# Altium schematic symbol library RP3_V302.SchLib: 44 symbols (part 1 of 2)
Pins are listed as number, name and electrical type; pins without a type are passive.

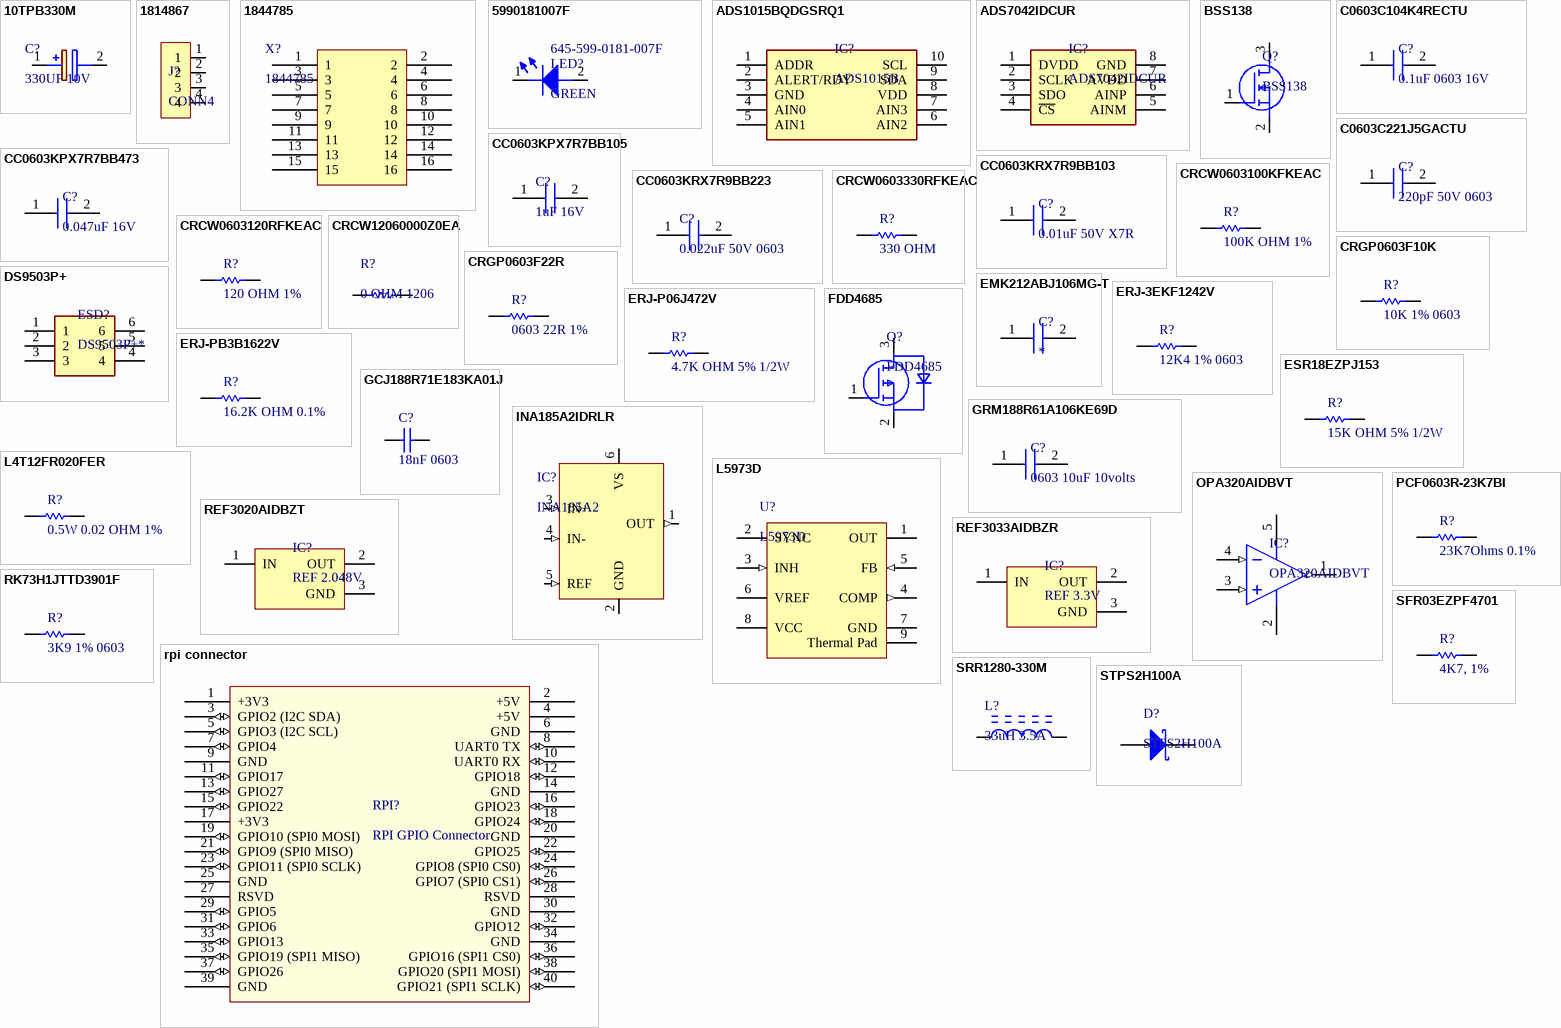
[diagram p0: symbols 10TPB330M to STPS2H100A]

## 10TPB330M
designator C?, comment 330UF 10V
CAP TANT POLY 330UF 10V 2917; Manufacturer_Name: Panasonic; Manufacturer_Part_Number: 10TPB330M; Material: Polymer; Tolerance: 20%; ESR (Equivalent Series Resistance): 35mR; Polarity: Polar; Dissipation Factor: 10%; Ripple Current: 3A; Leakage Current: 330uA; Height: 4mm; Supplier 1: Mouser; Supplier Part Number 1: 667-10TPB330M; Manufacturer: Panasonic; Manufacturer Part Number: 10TPB330M; RoHS: Yes; Category: Tantalum Capacitors; Stock 1: 4103; Pricing 1: 1=2.63000, 10=2.13000, 100=1.63000, 250=1.51000, 500=1.24000, 1000=1.09000, 2000=0.90800, 4000=0.87400, 10000=0.87100 (USD); Mount: Surface Mount; Case/Package: 2917; Number of Pins: 4; Case Code (Metric): 7343; Case Code (Imperial): 2917; Min Operating Temperature: -55°C; Max Operating Temperature: 105°C; Capacitance: 330uF; Packaging: Tape and Reel; Voltage: 10V; Voltage Rating: 10V; Package Quantity: 2000; Voltage Rating (DC): 10V; Termination: SMD/SMT; Features: General Purpose; Length: 7.3mm; Depth: 4.3mm; Width: 4.3mm; Height - Seated (Max): 0.157inch; Radiation Hardening: No; REACH SVHC: No SVHC; Lead Free: Lead Free; ComponentLink1URL: https://datasheet.ciiva.com/24414/tpb-tpc-series-datasheet-24414053.pdf?src-supplier=Onlinecomponents.com; ComponentLink1Description: https://datasheet.ciiva.com/24414/tpb-tpc-series-datasheet-24414053.pdf?src-supplier=Onlinecomponents.com; ComponentLink2URL: https://datasheet.ciiva.com/48674/aaa8000ce6-48674981.pdf?src-supplier=Avnet; ComponentLink2Description: https://datasheet.ciiva.com/48674/aaa8000ce6-48674981.pdf?src-supplier=Avnet; ComponentLink3URL: https://datasheet.ciiva.com/22745/1734361-22745177.pdf?src-supplier=Element14; ComponentLink3Description: https://datasheet.ciiva.com/22745/1734361-22745177.pdf?src-supplier=Element14; ComponentLink4URL: https://datasheet.ciiva.com/48542/tpb-series-eng-tds-48542379.pdf?src-supplier=Distrelec; ComponentLink4Description: https://datasheet.ciiva.com/48542/tpb-series-eng-tds-48542379.pdf?src-supplier=Distrelec; ComponentLink5URL: https://datasheet.ciiva.com/41428/001179753-da-01-en-tantal-kond-10vdc-330uf-35mr-734338-41428090.pdf?src-supplier=Conrad; ComponentLink5Description: https://datasheet.ciiva.com/41428/001179753-da-01-en-tantal-kond-10vdc-330uf-35mr-734338-41428090.pdf?src-supplier=Conrad
footprint CAPPM7343X400N
pins: 1 +, 2 -

## 1814867
designator J?, comment CONN4
Conn; TermBlk; PCB; Header; SnglLvl; 90DegAngle; THR; 4Pole; 2.5mmPitch; White; 6A; 250V; Manufacturer: Phoenix Contact; Manufacturer Part Number: 1814867; Number of Positions: 4; Gender: Male; Connector Type: Plug; Pitch: 2.5mm; Approvals: UL; Supplier 1: Mouser; RoHS: Yes; Category: Connectors; Stock 1: 808; Pricing 1: 1=0.86000, 10=0.79200, 25=0.77400, 50=0.76000, 100=0.72600, 250=0.70700, 500=0.66000, 1000=0.60800, 2500=0.56100 (USD); Mount: Through Hole; Color: White; Contact Plating: Tin; Material: Polyamide; Housing Color: White; Housing Material: Polyamide; Contact Material: Tin; Package Quantity: 500; Packaging: Tape and Reel; Current Rating: 6A; Voltage Rating: 250V; Termination: Solder; Fastening Type: Detent; Number of Contacts: 4; Number of Rows: 1; Number of Poles: 4; Orientation: Straight; Length: 7.5mm; Height: 7.5mm; Depth: 5mm; Width: 11.7mm; ComponentLink1URL: https://datasheet.ciiva.com/29681/1814867-29681920.pdf?src-supplier=Digi-Key; ComponentLink1Description: https://datasheet.ciiva.com/29681/1814867-29681920.pdf?src-supplier=Digi-Key; ComponentLink2URL: https://datasheet.ciiva.com/29207/556465-da-01-en-grundgehaeuse-ptsm-0-5-4-hh-2-5-thr-29207364.pdf?src-supplier=Conrad; ComponentLink2Description: https://datasheet.ciiva.com/29207/556465-da-01-en-grundgehaeuse-ptsm-0-5-4-hh-2-5-thr-29207364.pdf?src-supplier=Conrad; Supplier Part Number 1: 651-1814867
footprint PTSM_0_5/4-HH-2,5-THR
pins: 1, 2, 3, 4

## 1844785
designator X?
TERM BLOCK HDR 16POS 2.54MM; Manufacturer: Phoenix Contact; Supplier 1: Mouser; Manufacturer Part Number: 1844785; RoHS: No; Category: Terminal Blocks; Stock 1: 101; Pricing 1: 1=7.30000, 10=7.00000, 50=6.69000, 100=6.51000, 250=6.08000, 500=5.60000 (USD); Number of Pins: 16; ComponentLink1URL: https://media.digikey.com/pdf/Data%20Sheets/Phoenix%20Contact%20PDFs/1844785.pdf?src-supplier=Digi-Key; ComponentLink1Description: https://media.digikey.com/pdf/Data%20Sheets/Phoenix%20Contact%20PDFs/1844785.pdf?src-supplier=Digi-Key; Supplier Part Number 1: 651-1844785
footprint 1844785
pins: 1, 2, 3, 4, 5, 6, 7, 8, 9, 10, 11, 12, 13, 14, 15, 16
1 alternate drawing of the same symbol

## 5990181007F
designator LED?, comment GREEN  Supplier Part Number 1: 645-599-0181-007F
LED GREEN 0805 SMD; Manufacturer: Dialight; Manufacturer Part Number: 5990181007F; Supplier 1: Mouser; RoHS: No; Stock 1: 22824; Pricing 1: 1=0.68000, 10=0.39600, 100=0.22800, 1000=0.17900, 2500=0.14900, 8000=0.14900 (USD); ComponentLink1URL: http://www.dialightsignalsandcomponents.com/Assets/Brochures_And_Catalogs/Indication/CBI_SMD_new/Dialight_CBI_data_599-0805_Apr2018.pdf?src-supplier=Digi-Key; ComponentLink1Description: http://www.dialightsignalsandcomponents.com/Assets/Brochures_And_Catalogs/Indication/CBI_SMD_new/Dialight_CBI_data_599-0805_Apr2018.pdf?src-supplier=Digi-Key
footprint LEDC2012X70N
pins: 1 K, 2 A

## ADS1015BQDGSRQ1
designator IC?, comment ADS1015B
ADS1015B Automotive 12-Bit ADC; Manufacturer: Texas Instruments; Manufacturer Part Number: ADS1015BQDGSRQ1; Interface: I2C; Number of Inputs: 4; Supplier 1: Mouser; RoHS: No; Category: Analog to Digital Converters (ADCs); Stock 1: 3359; Pricing 1: 1=3.25000, 10=2.92000, 100=2.27000, 250=2.27000, 500=1.96000, 1000=1.63000, 2500=1.52000, 5000=1.48000 (USD); Min Operating Temperature: -40°C; Max Operating Temperature: 125°C; ComponentLink1URL: http://www.ti.com/lit/ds/symlink/ads1013-q1.pdf?src-supplier=Digi-Key; ComponentLink1Description: http://www.ti.com/lit/ds/symlink/ads1013-q1.pdf?src-supplier=Digi-Key; ComponentLink2URL: http://www.ti.com/general/docs/lit/getliterature.tsp?genericPartNumber=ADS1015-Q1&fileType=pdf&src-supplier=Farnell; ComponentLink2Description: http://www.ti.com/general/docs/lit/getliterature.tsp?genericPartNumber=ADS1015-Q1&fileType=pdf&src-supplier=Farnell; Supplier Part Number 1: 595-ADS1015BQDGSRQ1
footprint SOP50P490X110-10N
pins: 1 ADDR, 2 ALERT/RDY, 3 GND, 4 AIN0, 5 AIN1, 6 AIN2, 7 AIN3, 8 VDD, 9 SDA, 10 SCL

## ADS7042IDCUR
designator IC?
IC ADC 12BIT 1MSPS US8; Manufacturer: Texas Instruments; Number of Bits: 12; Sampling Rate: 1S/s; Number of Inputs: 1; Interface: SPI; Resolution: 12b; Polarity: Unipolar; Supply Type: Analog,Digital; Power Dissipation: 234uW; Operating Supply Voltage: 3V; Signal to Noise Ratio (SNR): 70dB; Max Power Dissipation: 690uW; Max Supply Voltage: 3.6V; Integral Nonlinearity (INL): 2LSB; Supplier 1: Mouser; Manufacturer Part Number: ADS7042IDCUR; RoHS: Yes; Category: Analog to Digital Converters (ADCs); Stock 1: 3041; Pricing 1: 1=2.64000, 10=2.37000, 100=1.79000, 500=1.52000, 1000=1.21000, 3000=1.11000 (USD); Mount: Surface Mount; Number of Pins: 8; Contact Plating: Gold; Min Operating Temperature: -40°C; Max Operating Temperature: 125°C; Packaging: Tape and Reel; Number of A/D Converters: 1; Number of Analog Inputs: 1; Lead Free: Lead Free; ComponentLink1URL: http://www.ti.com/lit/ds/symlink/ads7042.pdf?src-supplier=Digi-Key; ComponentLink1Description: http://www.ti.com/lit/ds/symlink/ads7042.pdf?src-supplier=Digi-Key; ComponentLink2URL: http://www.ti.com/general/docs/lit/getliterature.tsp?genericPartNumber=ADS7042&&fileType=pdf&src-supplier=Avnet; ComponentLink2Description: http://www.ti.com/general/docs/lit/getliterature.tsp?genericPartNumber=ADS7042&&fileType=pdf&src-supplier=Avnet; ComponentLink3URL: http://www.ti.com/lit/gpn/ads7042?src-supplier=Mouser; ComponentLink3Description: http://www.ti.com/lit/gpn/ads7042?src-supplier=Mouser; Supplier Part Number 1: 595-ADS7042IDCUR
footprint SOP50P310X90-8N
pins: 1 DVDD, 2 SCLK, 3 SDO, 4 ~{CS}, 5 AINM, 6 AINP, 7 AVDD, 8 GND

## BSS138
designator Q?
MOSFET N-CH 50V 220MA SOT-23; Manufacturer: ON Semiconductor / Fairchild; Element Configuration: Single; Rds On Max: 3.5R; Input Capacitance: 27pF; Max Power Dissipation: 360mW; Rise Time: 9ns; Turn-Off Delay Time: 20ns; Gate to Source Voltage (Vgs): 20V; Turn-On Delay Time: 2.5ns; Number of Elements: 1; Threshold Voltage: 1.3V; On-State Resistance: 6R; Supplier 1: Mouser; Manufacturer Part Number: BSS138; RoHS: Yes; Category: MOSFETs; Stock 1: 736044; Pricing 1: 1=0.26000, 10=0.17800, 100=0.07400, 1000=0.05000, 3000=0.03900, 9000=0.03300, 24000=0.03100, 45000=0.02900 (USD); Mount: Surface Mount; Case/Package: SOT-23; Number of Pins: 3; Weight: 0.03g; Contact Plating: Tin,Matte; Min Operating Temperature: -55°C; Max Operating Temperature: 150°C; Packaging: Tape and Reel; Continuous Drain Current (ID): 220mA; Drain to Source Voltage (Vdss): 50V; Drain to Source Breakdown Voltage: 50V; Fall Time: 9ns; Drain to Source Resistance: 3.5R; Package Quantity: 1; Power Dissipation: 360mW; Voltage Rating (DC): 50V; Current Rating: 220mA; Nominal Vgs: 1.3V; Dual Supply Voltage: 50V; Termination: SMD/SMT; Length: 2.92mm; Height: 0.93mm; Width: 1.3mm; Radiation Hardening: No; Lead Free: Lead Free; REACH SVHC: No SVHC; ComponentLink1URL: https://datasheet.ciiva.com/931/bss138-931776.pdf?src-supplier=Digi-Key; ComponentLink1Description: https://datasheet.ciiva.com/931/bss138-931776.pdf?src-supplier=Digi-Key; ComponentLink2URL: https://datasheet.ciiva.com/1190/193736-1190130.pdf?src-supplier=Element14; ComponentLink2Description: https://datasheet.ciiva.com/1190/193736-1190130.pdf?src-supplier=Element14; ComponentLink3URL: https://datasheet.ciiva.com/27050/784896-27050043.pdf?src-supplier=Jameco; ComponentLink3Description: https://datasheet.ciiva.com/27050/784896-27050043.pdf?src-supplier=Jameco; ComponentLink4URL: https://datasheet.ciiva.com/1190/193736-1190131.pdf?src-supplier=Element14; ComponentLink4Description: https://datasheet.ciiva.com/1190/193736-1190131.pdf?src-supplier=Element14; ComponentLink5URL: https://datasheet.ciiva.com/1254/193736-1254983.pdf?src-supplier=Newark; ComponentLink5Description: https://datasheet.ciiva.com/1254/193736-1254983.pdf?src-supplier=Newark; ComponentLink6URL: https://datasheet.ciiva.com/16834/bss138-16834843.pdf?src-supplier=Future+Electronics; ComponentLink6Description: https://datasheet.ciiva.com/16834/bss138-16834843.pdf?src-supplier=Future+Electronics; ComponentLink7URL: https://datasheet.ciiva.com/26229/bss138-26229007.pdf?src-supplier=Avnet+Europe; ComponentLink7Description: https://datasheet.ciiva.com/26229/bss138-26229007.pdf?src-supplier=Avnet+Europe; ComponentLink8URL: https://datasheet.ciiva.com/3304/bss138-3304424.pdf?src-supplier=Avnet; ComponentLink8Description: https://datasheet.ciiva.com/3304/bss138-3304424.pdf?src-supplier=Avnet; ComponentLink9URL: https://datasheet.ciiva.com/22655/193736-22655240.pdf?src-supplier=Element14; ComponentLink9Description: https://datasheet.ciiva.com/22655/193736-22655240.pdf?src-supplier=Element14; Supplier Part Number 1: 512-BSS138
footprint SOT-23-3
pins: 1 G, 2 S, 3 D

## C0603C104K4RECTU
designator C?, comment 0.1uF 0603 16V
Cap Ceramic MLCC  16V 0.1uF 0603 X7R 10%; Manufacturer: KEMET; Manufacturer Part Number: C0603C104K4RECTU; RoHS: No; Stock 1: 41640; Pricing 1: 1=0.11000, 10=0.04800, 100=0.03400, 500=0.02800, 1000=0.02300, 4000=0.01800 (USD); Supplier 1: Mouser; Supplier Part Number 1: 80-C0603C104K4RECTU
footprint CAPC1608X87N
pins: 1, 2

## C0603C221J5GACTU
designator C?, comment 220pF 50V 0603
Cap Ceramic 220pF 50V, C0G, 5%, 0603; Manufacturer: KEMET; Manufacturer Part Number: C0603C221J5GACTU; Dissipation Factor: 0.1%; Temperature Coefficient: 30ppm/°C; Supplier 1: Digi-Key; RoHS: Yes; Category: Ceramic Capacitors; Stock 1: 149248; Pricing 1: 1=0.10000, 10=0.06100, 100=0.02730, 500=0.01948, 1000=0.01531 (USD); Mount: Surface Mount; Case/Package: 0603; Number of Pins: 2; Contact Plating: Tin,Matte; Dielectric Material: Ceramic; Contact Material: Tin; Case Code (Imperial): 0603; Case Code (Metric): 1608; Min Operating Temperature: -55°C; Max Operating Temperature: 125°C; Packaging: Tape and Reel; Tolerance: 5%; Capacitance: 220pF; Dielectric: C0G; Voltage Rating (DC): 50V; Voltage: 50V; Package Quantity: 1; Voltage Rating: 50V; Termination: SMD/SMT; Length: 1.6mm; Height: 0.8mm; Depth: 0.8mm; Width: 0.8mm; Thickness: 0.034inch; Lead Pitch: 0.7mm; Radiation Hardening: No; Lead Free: Lead Free; REACH SVHC: No SVHC; ComponentLink1URL: https://datasheet.ciiva.com/18192/getdatasheetpartid-93445-18192871.pdf?src-supplier=Verical; ComponentLink1Description: https://datasheet.ciiva.com/18192/getdatasheetpartid-93445-18192871.pdf?src-supplier=Verical; Supplier Part Number 1: 399-1066-1-ND
footprint CAPC1608X87N
pins: 1, 2

## CC0603KPX7R7BB105
designator C?, comment 1uF 16V
Cap Ceramic 1uF 16V X7R 10% SMD 0603 125C Paper T/R; Manufacturer: Yageo; Manufacturer Part Number: CC0603KPX7R7BB105; Supplier 1: Mouser; RoHS: Yes; Category: Ceramic Capacitors; Stock 1: 23771; Pricing 1: 1=0.20000, 10=0.10100, 100=0.05100, 1000=0.04300, 2500=0.03200, 10000=0.03100, 15000=0.02700, 90000=0.02300 (USD); Mount: Surface Mount; Case/Package: 0603; Weight: 7.1E-05oz; Case Code (Imperial): 0603; Case Code (Metric): 1608; Min Operating Temperature: -55°C; Max Operating Temperature: 125°C; Capacitance: 1uF; Voltage Rating (DC): 16V; Tolerance: 10%; Packaging: Tape and Reel; Dielectric: X7R; Termination: SMD/SMT; Composition: Ceramic; Length: 1.6mm; Height: 0.8mm; Depth: 0.8mm; Radiation Hardening: No; Lead Free: Lead Free; Halogen Free: Halogen Free; ComponentLink1URL: https://datasheet.ciiva.com/11586/upy-gphc-x7r-6-3v-to-50v-8-11586296.pdf?src-supplier=Avnet; ComponentLink1Description: https://datasheet.ciiva.com/11586/upy-gphc-x7r-6-3v-to-50v-8-11586296.pdf?src-supplier=Avnet; Supplier Part Number 1: 603-CC603KPX7R7BB105
footprint CAPC1608X87N
pins: 1, 2

## CC0603KPX7R7BB473
designator C?, comment 0.047uF 16V
Cap Ceramic 0.047uF 16V X7R 10% SMD 0603 125C Paper T/R; Manufacturer: Yageo; Manufacturer Part Number: CC0603KPX7R7BB473; Capacitance: 47nF; Supplier 1: Mouser; RoHS: Yes; Category: Capacitors; Stock 1: 25389; Pricing 1: 1=0.10000, 10=0.04500, 100=0.02100, 1000=0.01600, 2500=0.01200, 10000=0.01100, 45000=0.00900, 90000=0.00800 (USD); Case/Package: Ceramic; Min Operating Temperature: -55°C; Max Operating Temperature: 125°C; Packaging: Tape and Reel; Tolerance: 10%; Voltage Rating (DC): 16V; Dielectric: X7R; Composition: Ceramic; Voltage: 16V; Length: 1.6mm; Depth: 0.8mm; Radiation Hardening: No; Lead Free: Lead Free; Halogen Free: Halogen Free; ComponentLink1URL: https://www.verical.com/server-webapp/html/getDatasheet?partID=403557&src-supplier=Verical; ComponentLink1Description: https://www.verical.com/server-webapp/html/getDatasheet?partID=403557&src-supplier=Verical; ComponentLink2URL: http://www.mouser.com/ds/2/447/UPY-GPHC_X7R_6.3V-to-50V_10-595240.pdf?src-supplier=Mouser; ComponentLink2Description: http://www.mouser.com/ds/2/447/UPY-GPHC_X7R_6.3V-to-50V_10-595240.pdf?src-supplier=Mouser; ComponentLink3URL: http://components.arrow.com/part/dataview/0323_00776261?src-supplier=Arrow+Europe; ComponentLink3Description: http://components.arrow.com/part/dataview/0323_00776261?src-supplier=Arrow+Europe; Supplier Part Number 1: 603-CC603KPX7R7BB473
footprint CAPC1608X87N
pins: 1, 2

## CC0603KRX7R9BB103
designator C?, comment 0.01uF 50V X7R
Cap Ceramic 0.01uF 50V X7R 10% SMD 0603 125C Automotive T/R; Manufacturer: Yageo; Manufacturer Part Number: CC0603KRX7R9BB103; Capacitance: 10nF; Insulation Resistance: 100GR; RoHS: Yes; Category: Ceramic Capacitors; Stock 1: 3087962; Pricing 1: 1=0.10000, 10=0.03600, 100=0.01200, 1000=0.00900, 4000=0.00700, 8000=0.00600 (USD); Mount: Surface Mount; Case/Package: 0603; Number of Pins: 2; Case Code (Metric): 1608; Case Code (Imperial): 0603; Material: Ceramic; Min Operating Temperature: -55°C; Max Operating Temperature: 125°C; Tolerance: 10%; Packaging: Tape and Reel; Voltage Rating: 50V; Voltage Rating (DC): 50V; Package Quantity: 1; Dielectric: X7R; Termination: SMD/SMT; Composition: Ceramic; Voltage: 50V; Length: 1.6mm; Height: 0.8mm; Width: 0.031inch; Thickness: 0.035inch; Depth: 0.8mm; Radiation Hardening: No; REACH SVHC: No SVHC; Lead Free: Lead Free; Halogen Free: Halogen Free; ComponentLink1URL: https://datasheet.ciiva.com/11788/0900766b8079c870-11788374.pdf?src-supplier=RSComponents; ComponentLink1Description: https://datasheet.ciiva.com/11788/0900766b8079c870-11788374.pdf?src-supplier=RSComponents; ComponentLink2URL: https://datasheet.ciiva.com/26862/getdatasheetpartid-403582-26862846.pdf?src-supplier=Verical; ComponentLink2Description: https://datasheet.ciiva.com/26862/getdatasheetpartid-403582-26862846.pdf?src-supplier=Verical; ComponentLink3URL: https://datasheet.ciiva.com/8033/1734573-8033861.pdf?src-supplier=Element14; ComponentLink3Description: https://datasheet.ciiva.com/8033/1734573-8033861.pdf?src-supplier=Element14; ComponentLink4URL: https://datasheet.ciiva.com/176/mlccorderingcode-176550.pdf?src-supplier=Digi-Key; ComponentLink4Description: https://datasheet.ciiva.com/176/mlccorderingcode-176550.pdf?src-supplier=Digi-Key; ComponentLink5URL: https://datasheet.ciiva.com/176/mlccorderingcode-176551.pdf?src-supplier=Digi-Key; ComponentLink5Description: https://datasheet.ciiva.com/176/mlccorderingcode-176551.pdf?src-supplier=Digi-Key; ComponentLink6URL: https://datasheet.ciiva.com/13389/upy-gphc-x7r-6-3v-to-50v-8-13389991.pdf?src-supplier=Mouser; ComponentLink6Description: https://datasheet.ciiva.com/13389/upy-gphc-x7r-6-3v-to-50v-8-13389991.pdf?src-supplier=Mouser; ComponentLink7URL: https://datasheet.ciiva.com/176/mlccorderingcode-176552.pdf?src-supplier=Digi-Key; ComponentLink7Description: https://datasheet.ciiva.com/176/mlccorderingcode-176552.pdf?src-supplier=Digi-Key; ComponentLink8URL: https://datasheet.ciiva.com/8033/1734573-8033816.pdf?src-supplier=Element14; ComponentLink8Description: https://datasheet.ciiva.com/8033/1734573-8033816.pdf?src-supplier=Element14; ComponentLink9URL: https://datasheet.ciiva.com/8033/70765-8033817.pdf?src-supplier=Element14; ComponentLink9Description: https://datasheet.ciiva.com/8033/70765-8033817.pdf?src-supplier=Element14; ComponentLink10URL: https://datasheet.ciiva.com/16625/upy-gphc-x7r-6-3v-to-50v-8-16625529.pdf?src-supplier=Avnet+Europe; ComponentLink10Description: https://datasheet.ciiva.com/16625/upy-gphc-x7r-6-3v-to-50v-8-16625529.pdf?src-supplier=Avnet+Europe; ComponentLink11URL: https://datasheet.ciiva.com/28450/1489800-28450619.pdf?src-supplier=Element14; ComponentLink11Description: https://datasheet.ciiva.com/28450/1489800-28450619.pdf?src-supplier=Element14; Supplier 1: Mouser; Supplier Part Number 1: 603-CC603KRX7R9BB103
footprint CAPC1608X87N
pins: 1, 2

## CC0603KRX7R9BB223
designator C?, comment 0.022uF 50V 0603
Cap Ceramic 0.022uF 50V X7R 0603; Manufacturer: Yageo; Manufacturer Part Number: CC0603KRX7R9BB223; Capacitance: 22nF; Tolerance: 10%; Insulation Resistance: 100GR; Supplier 1: Digi-Key; RoHS: Yes; Category: Ceramic Capacitors; Stock 1: 203085; Pricing 1: 1=0.10000, 10=0.06100, 100=0.02720, 500=0.01946, 1000=0.01529 (USD); Mount: Surface Mount; Case/Package: 0603; Number of Pins: 2; Case Code (Metric): 1608; Case Code (Imperial): 0603; Dielectric Material: Ceramic; Min Operating Temperature: -55°C; Max Operating Temperature: 125°C; Dielectric: X7R; Voltage: 50V; Package Quantity: 1; Voltage Rating: 50V; Packaging: Tape and Reel; Voltage Rating (DC): 50V; Termination: SMD/SMT; Composition: Ceramic; Length: 1.6mm; Height: 0.8mm; Depth: 0.8mm; Width: 0.031inch; Thickness: 0.035inch; Radiation Hardening: No; REACH SVHC: No SVHC; Lead Free: Lead Free; Halogen Free: Halogen Free; ComponentLink1URL: https://datasheet.ciiva.com/11464/upy-gphc-x7r-6-3v-to-50v-8-11464741.pdf?src-supplier=Avnet; ComponentLink1Description: https://datasheet.ciiva.com/11464/upy-gphc-x7r-6-3v-to-50v-8-11464741.pdf?src-supplier=Avnet; ComponentLink2URL: https://datasheet.ciiva.com/16625/upy-gphc-x7r-6-3v-to-50v-8-16625532.pdf?src-supplier=Avnet+Europe; ComponentLink2Description: https://datasheet.ciiva.com/16625/upy-gphc-x7r-6-3v-to-50v-8-16625532.pdf?src-supplier=Avnet+Europe; ComponentLink3URL: https://datasheet.ciiva.com/8033/70765-8033869.pdf?src-supplier=Element14; ComponentLink3Description: https://datasheet.ciiva.com/8033/70765-8033869.pdf?src-supplier=Element14; ComponentLink4URL: https://datasheet.ciiva.com/156/mlccorderingcode-156177.pdf?src-supplier=Digi-Key; ComponentLink4Description: https://datasheet.ciiva.com/156/mlccorderingcode-156177.pdf?src-supplier=Digi-Key; ComponentLink5URL: https://datasheet.ciiva.com/156/mlccorderingcode-156178.pdf?src-supplier=Digi-Key; ComponentLink5Description: https://datasheet.ciiva.com/156/mlccorderingcode-156178.pdf?src-supplier=Digi-Key; ComponentLink6URL: https://datasheet.ciiva.com/156/mlccorderingcode-156179.pdf?src-supplier=Digi-Key; ComponentLink6Description: https://datasheet.ciiva.com/156/mlccorderingcode-156179.pdf?src-supplier=Digi-Key; ComponentLink7URL: https://datasheet.ciiva.com/8033/1489800-8033865.pdf?src-supplier=Element14; ComponentLink7Description: https://datasheet.ciiva.com/8033/1489800-8033865.pdf?src-supplier=Element14; ComponentLink8URL: https://datasheet.ciiva.com/8033/1489800-8033867.pdf?src-supplier=Element14; ComponentLink8Description: https://datasheet.ciiva.com/8033/1489800-8033867.pdf?src-supplier=Element14; ComponentLink9URL: https://datasheet.ciiva.com/28450/1489800-28450639.pdf?src-supplier=Element14; ComponentLink9Description: https://datasheet.ciiva.com/28450/1489800-28450639.pdf?src-supplier=Element14; Supplier Part Number 1: 311-1370-1-ND
footprint CAPC1608X87N
pins: 1, 2

## CRCW0603100KFKEAC
designator R?, comment 100K OHM 1%
RES SMD 100K OHM 1% 1/10W 0603; Manufacturer: Vishay; Manufacturer Part Number: CRCW0603100KFKEAC; Power Rating: 100mW; Resistance: 100kR; Temperature Coefficient: 100ppm/°C; RoHS: Yes; Category: Resistors; Stock 1: 901833; Pricing 1: 1=0.10000, 10=0.03300, 100=0.01300, 500=0.00800, 1000=0.00500, 5000=0.00500, 10000=0.00400 (USD); Mount: Surface Mount; Case/Package: Molded; Contact Plating: Tin; Min Operating Temperature: -55°C; Max Operating Temperature: 155°C; Tolerance: 1%; Composition: Thick Film; Termination: Wraparound; Length: 1.55mm; Lead Free: Lead Free; ComponentLink1URL: http://www.vishay.com/docs/28773/crcwce3.pdf?src-supplier=Digi-Key; ComponentLink1Description: http://www.vishay.com/docs/28773/crcwce3.pdf?src-supplier=Digi-Key; ComponentLink2URL: http://www.vishay.com/docs/20035/dcrcwe3.pdf?src-supplier=Avnet+Asia; ComponentLink2Description: http://www.vishay.com/docs/20035/dcrcwe3.pdf?src-supplier=Avnet+Asia; Supplier 1: Mouser; Supplier Part Number 1: 71-CRCW0603100KFKEAC
footprint RESC1608X55X30NL10T20_B (Chip Resistor, 2-Leads, Body 1.7x0.95mm, IPC Medium Density)
pins: 1, 2

## CRCW0603120RFKEAC
designator R?, comment 120 OHM 1%
RES SMD 120 OHM 1% 1/10W 0603; Manufacturer: Vishay; Manufacturer Part Number: CRCW0603120RFKEAC; Supplier 1: Mouser; RoHS: No; Stock 1: 69635; Pricing 1: 1=0.10000, 10=0.03100, 100=0.01300, 500=0.00800, 1000=0.00500, 5000=0.00400, 50000=0.00300 (USD); ComponentLink1URL: http://www.vishay.com/docs/28773/crcwce3.pdf?src-supplier=Digi-Key; ComponentLink1Description: http://www.vishay.com/docs/28773/crcwce3.pdf?src-supplier=Digi-Key; Supplier Part Number 1: 71-CRCW0603120RFKEAC
footprint RESC1608X55X30NL10T20_B (Chip Resistor, 2-Leads, Body 1.7x0.95mm, IPC Medium Density)
pins: 1, 2

## CRCW0603330RFKEAC
designator R?, comment 330 OHM
RES SMD 330 OHM 1% 1/10W 0603; Manufacturer: Vishay Semiconductors; Manufacturer Part Number: CRCW0603330RFKEAC; Resistance: 330R; Power Rating: 100mW; Temperature Coefficient: 100ppm/°C; Supplier 1: Mouser; RoHS: Yes; Category: Resistors; Stock 1: 108002; Pricing 1: 1=0.10000, 10=0.03000, 100=0.01200, 500=0.00700, 1000=0.00400, 5000=0.00400, 10000=0.00300 (USD); Mount: Surface Mount; Case/Package: Molded; Contact Plating: Tin; Min Operating Temperature: -55°C; Max Operating Temperature: 155°C; Composition: Thick Film; Termination: Wraparound; Tolerance: 1%; Length: 1.55mm; Lead Free: Lead Free; ComponentLink1URL: http://www.vishay.com/docs/28773/crcwce3.pdf?src-supplier=Digi-Key; ComponentLink1Description: http://www.vishay.com/docs/28773/crcwce3.pdf?src-supplier=Digi-Key; ComponentLink2URL: http://www.vishay.com/docs/20035/dcrcwe3.pdf?src-supplier=Avnet+Asia; ComponentLink2Description: http://www.vishay.com/docs/20035/dcrcwe3.pdf?src-supplier=Avnet+Asia; Supplier Part Number 1: 71-CRCW0603330RFKEAC
footprint RESC1608X55X30NL10T20_B (Chip Resistor, 2-Leads, Body 1.7x0.95mm, IPC Medium Density)
pins: 1, 2

## CRCW12060000Z0EA
designator R?, comment 0 OHM 1206
RES SMD 0 OHM JUMPER 1/4W 1206; Manufacturer: Vishay; Manufacturer Part Number: CRCW12060000Z0EA; Resistance: 0mR; Power Rating: 250mW; Voltage Rating: 200V; Temperature Coefficient: 100ppm/°C; Tolerance: 1%; Supplier 1: Mouser; Supplier Part Number 1: 71-CRCW1206-0-E3; RoHS: Yes; Category: Chip SMD Resistors; Stock 1: 445798; Pricing 1: 1=0.10000, 10=0.04400, 100=0.01900, 1000=0.01300, 5000=0.00800, 10000=0.00700, 25000=0.00600 (USD); Mount: Surface Mount; Case/Package: 1206; Weight: 0.000353oz; Contact Plating: Tin; Case Code (Imperial): 1206; Case Code (Metric): 3216; Min Operating Temperature: -55°C; Max Operating Temperature: 155°C; Composition: Thick Film; Packaging: Tape and Reel; Military Standard: Not; Termination: SMD/SMT; Package Quantity: 5000; Voltage Rating (DC): 200V; Length: 3.2mm; Height: 0.55mm; Depth: 1.6mm; Width: 1.6mm; Radiation Hardening: No; Lead Free: Lead Free; REACH SVHC: Unknown; ComponentLink1URL: https://datasheet.ciiva.com/11809/0900766b80d98b5e-11809211.pdf?src-supplier=RSComponents; ComponentLink1Description: https://datasheet.ciiva.com/11809/0900766b80d98b5e-11809211.pdf?src-supplier=RSComponents; ComponentLink2URL: https://datasheet.ciiva.com/16720/70201119-16720117.pdf?src-supplier=Allied+Electronics; ComponentLink2Description: https://datasheet.ciiva.com/16720/70201119-16720117.pdf?src-supplier=Allied+Electronics; ComponentLink3URL: https://datasheet.ciiva.com/7841/1720486-7841862.pdf?src-supplier=Element14; ComponentLink3Description: https://datasheet.ciiva.com/7841/1720486-7841862.pdf?src-supplier=Element14; ComponentLink4URL: https://datasheet.ciiva.com/16364/dcrcwe3-16364998.pdf?src-supplier=Future+Electronics; ComponentLink4Description: https://datasheet.ciiva.com/16364/dcrcwe3-16364998.pdf?src-supplier=Future+Electronics; ComponentLink5URL: https://datasheet.ciiva.com/5549/dcrcwe3-109170-5549528.pdf?src-supplier=Mouser; ComponentLink5Description: https://datasheet.ciiva.com/5549/dcrcwe3-109170-5549528.pdf?src-supplier=Mouser; ComponentLink6URL: https://datasheet.ciiva.com/7841/1697337-7841706.pdf?src-supplier=Element14; ComponentLink6Description: https://datasheet.ciiva.com/7841/1697337-7841706.pdf?src-supplier=Element14; ComponentLink7URL: https://datasheet.ciiva.com/16782/70201119-16782555.pdf?src-supplier=Allied+Electronics; ComponentLink7Description: https://datasheet.ciiva.com/16782/70201119-16782555.pdf?src-supplier=Allied+Electronics
footprint RESC3216X105X45ML10T20 (Chip Resistor, 2-Leads, Body 3.20x1.60mm, IPC Low Density)
pins: 1, 2

## CRGP0603F10K
designator R?, comment 10K 1% 0603
CRGP 0603 10K 1%; Manufacturer: TE Connectivity; Manufacturer Part Number: CRGP0603F10K; Supplier 1: Mouser; RoHS: No; Stock 1: 12566; Pricing 1: 1=0.10000, 10=0.03400, 100=0.02700, 500=0.02500, 1000=0.02100, 5000=0.01900, 10000=0.01600, 25000=0.01500, 50000=0.01400 (USD); ComponentLink1URL: http://www.farnell.com/datasheets/2609222.pdf?src-supplier=Farnell; ComponentLink1Description: http://www.farnell.com/datasheets/2609222.pdf?src-supplier=Farnell; ComponentLink2URL: https://www.te.com/commerce/DocumentDelivery/DDEController?Action=srchrtrv&DocNm=9-1773463-9&DocType=DS&DocLang=English&src-supplier=Digi-Key; ComponentLink2Description: https://www.te.com/commerce/DocumentDelivery/DDEController?Action=srchrtrv&DocNm=9-1773463-9&DocType=DS&DocLang=English&src-supplier=Digi-Key; Supplier Part Number 1: 279-CRGP0603F10K
footprint RESC1608X55X30NL10T20_B (Chip Resistor, 2-Leads, Body 1.7x0.95mm, IPC Medium Density)
pins: 1, 2

## CRGP0603F22R
designator R?, comment 0603 22R 1%
SMD CRGP 0603 22R 1% SMD Resistor; Manufacturer: TE Connectivity; Manufacturer Part Number: CRGP0603F22R; Supplier 1: Mouser; RoHS: No; Stock 1: 14874; Pricing 1: 1=0.10000, 10=0.03400, 100=0.02700, 500=0.02500, 1000=0.02100, 5000=0.01900, 10000=0.01600, 25000=0.01500, 50000=0.01400 (USD); Supplier Part Number 1: 279-CRGP0603F22R
footprint RESC1608X55X30NL10T20_B (Chip Resistor, 2-Leads, Body 1.7x0.95mm, IPC Medium Density)
pins: 1, 2

## DS9503P+
designator ESD?, comment DS9503P+*
TVS DIODE 7.5V 6TSOC; Manufacturer: Maxim; Direction: Unidirectional; Capacitance: 40pF; Operating Supply Voltage: 5V; Max Surge Current: 2A; Number of Unidirectional Channels: 1; Power Line Protection: No; Breakdown Voltage: 9V; Element Configuration: Single; Supplier 1: Mouser; Manufacturer Part Number: DS9503P+; RoHS: Yes; Category: TVS Diodes; Stock 1: 9865; Pricing 1: 1=1.02000, 10=0.92100, 25=0.87300, 50=0.87300, 100=0.72500, 250=0.68200 (USD); Mount: Surface Mount; Number of Pins: 6; Contact Plating: Tin,Matte; Min Operating Temperature: -40°C; Max Operating Temperature: 85°C; Package Quantity: 120; Packaging: Rail/Tube; Reverse Standoff Voltage: 7.5V; Number of Channels: 1; Polarity: Unidirectional; Termination: SMD/SMT; Voltage Rating (DC): 7.5V; Composition: Zener; Length: 4mm; Height: 1.5mm; Width: 3.7mm; Radiation Hardening: No; REACH SVHC: No SVHC; Lead Free: Lead Free; ComponentLink1URL: https://datasheet.ciiva.com/342/ds9503-342336.pdf?src-supplier=Digi-Key; ComponentLink1Description: https://datasheet.ciiva.com/342/ds9503-342336.pdf?src-supplier=Digi-Key; ComponentLink2URL: https://datasheet.ciiva.com/1219/ds9503-1219265.pdf?src-supplier=Newark; ComponentLink2Description: https://datasheet.ciiva.com/1219/ds9503-1219265.pdf?src-supplier=Newark; ComponentLink3URL: https://datasheet.ciiva.com/4510/ds9503-102806-4510530.pdf?src-supplier=Mouser; ComponentLink3Description: https://datasheet.ciiva.com/4510/ds9503-102806-4510530.pdf?src-supplier=Mouser; ComponentLink4URL: https://datasheet.ciiva.com/1267/4513-1267914.pdf?src-supplier=Element14; ComponentLink4Description: https://datasheet.ciiva.com/1267/4513-1267914.pdf?src-supplier=Element14; ComponentLink5URL: https://datasheet.ciiva.com/14162/07377252-14162974.pdf?src-supplier=Distrelec; ComponentLink5Description: https://datasheet.ciiva.com/14162/07377252-14162974.pdf?src-supplier=Distrelec; ComponentLink6URL: https://datasheet.ciiva.com/26787/ds9503p-26787313.pdf?src-supplier=IIIC; ComponentLink6Description: https://datasheet.ciiva.com/26787/ds9503p-26787313.pdf?src-supplier=IIIC; ComponentLink7URL: https://datasheet.ciiva.com/25918/ds9503-25918971.pdf?src-supplier=Avnet+Europe; ComponentLink7Description: https://datasheet.ciiva.com/25918/ds9503-25918971.pdf?src-supplier=Avnet+Europe; Supplier Part Number 1: 700-DS9503P
footprint 6-LEAD-TSOC
pins: 1, 2, 3, 4, 5, 6

## EMK212ABJ106MG-T
designator C?
CAP ,MLCC ,0805,16V ,X5R,10UF 20% ,T&R; Manufacturer: Taiyo Yuden; Manufacturer Part Number: EMK212ABJ106MG-T; RoHS: Yes; Category: Ceramic Capacitors; Stock 1: 19271; Pricing 1: 1=0.18000, 10=0.07200, 100=0.05000, 500=0.04200, 1000=0.03700, 3000=0.03100 (USD); Mount: Surface Mount; Case/Package: 0805; Min Operating Temperature: -55°C; Max Operating Temperature: 85°C; Capacitance: 10uF; Tolerance: 20%; Dielectric: X5R; Voltage: 16V; Length: 2mm; Height: 1.25mm; Depth: 1.25mm; ComponentLink1URL: https://ds.yuden.co.jp/TYCOMPAS/ut/detail?pn=EMK212ABJ106MG-T &amp;u=M&src-supplier=Digi-Key; ComponentLink1Description: https://ds.yuden.co.jp/TYCOMPAS/ut/detail?pn=EMK212ABJ106MG-T &amp;u=M&src-supplier=Digi-Key; Supplier 1: Mouser; Supplier Part Number 1: 963-EMK212ABJ106MG-T
footprint CAPC2012X135N
pins: 1, 2

## ERJ-3EKF1242V
designator R?, comment 12K4 1% 0603
RES SMD 12.4K OHM 1% 1/10W 0603; Manufacturer: Panasonic; Manufacturer Part Number: ERJ-3EKF1242V; Resistance: 12.4kR; Temperature Coefficient: 100ppm/°C; Power Rating: 100mW; Voltage Rating: 75V; Voltage Rating (DC): 50V; Supplier 1: Digi-Key; RoHS: Yes; Category: Chip SMD Resistors; Stock 1: 160802; Pricing 1: 1=0.10000, 10=0.05700, 100=0.02340, 1000=0.01049, 2500=0.00911 (USD); Mount: Surface Mount; Case/Package: 0603; Case Code (Metric): 1608; Case Code (Imperial): 0603; Contact Plating: Tin; Min Operating Temperature: -55°C; Max Operating Temperature: 155°C; Tolerance: 1%; Composition: Thick Film; Packaging: Tape and Reel; Number of Terminations: 2; Package Quantity: 1; Max Power Dissipation: 100mW; Termination: SMD/SMT; Military Standard: Not; Features: Automotive AEC-Q200; Length: 1.6mm; Height: 0.022inch; Width: 0.031inch; Depth: 0.8mm; Radiation Hardening: No; Lead Free: Lead Free; REACH SVHC: No SVHC; ComponentLink1URL: https://datasheet.ciiva.com/9193/aoa0000ce2-9193462.pdf?src-supplier=Avnet; ComponentLink1Description: https://datasheet.ciiva.com/9193/aoa0000ce2-9193462.pdf?src-supplier=Avnet; ComponentLink2URL: https://datasheet.ciiva.com/46377/426256-46377259.pdf?src-supplier=Element14; ComponentLink2Description: https://datasheet.ciiva.com/46377/426256-46377259.pdf?src-supplier=Element14; ComponentLink3URL: https://datasheet.ciiva.com/24068/aoa0000ce2-24068863.pdf?src-supplier=Mouser; ComponentLink3Description: https://datasheet.ciiva.com/24068/aoa0000ce2-24068863.pdf?src-supplier=Mouser; ComponentLink4URL: https://datasheet.ciiva.com/30204/aoa0000ce2-30204934.pdf?src-supplier=Onlinecomponents.com; ComponentLink4Description: https://datasheet.ciiva.com/30204/aoa0000ce2-30204934.pdf?src-supplier=Onlinecomponents.com; ComponentLink5URL: https://datasheet.ciiva.com/28693/1678782-28693545.pdf?src-supplier=Element14; ComponentLink5Description: https://datasheet.ciiva.com/28693/1678782-28693545.pdf?src-supplier=Element14; ComponentLink6URL: https://datasheet.ciiva.com/46388/426256-46388923.pdf?src-supplier=Element14; ComponentLink6Description: https://datasheet.ciiva.com/46388/426256-46388923.pdf?src-supplier=Element14; ComponentLink7URL: https://datasheet.ciiva.com/15159/getdatasheetpartid-249575-15159053.pdf?src-supplier=Verical; ComponentLink7Description: https://datasheet.ciiva.com/15159/getdatasheetpartid-249575-15159053.pdf?src-supplier=Verical; Supplier Part Number 1: P12.4KHCT-ND
footprint RESC1608X55X30NL10T20_B (Chip Resistor, 2-Leads, Body 1.7x0.95mm, IPC Medium Density)
pins: 1, 2

## ERJ-P06J472V
designator R?, comment 4.7K OHM 5% 1/2W
RES SMD 4.7K OHM 5% 1/2W 0805; Manufacturer: Panasonic; Manufacturer Part Number: ERJ-P06J472V; Resistance: 4.7kR; Power Rating: 500mW; Voltage Rating: 400V; Temperature Coefficient: 200ppm/°C; Voltage Rating (DC): 150V; Supplier 1: Mouser; RoHS: Yes; Category: Chip SMD Resistors; Stock 1: 53798; Pricing 1: 1=0.13000, 10=0.11600, 100=0.04400, 1000=0.01700, 5000=0.01300, 10000=0.01200, 25000=0.01100, 50000=0.01000 (USD); Mount: Surface Mount; Case/Package: 0805; Case Code (Imperial): 0805; Case Code (Metric): 2012; Contact Plating: Tin; Min Operating Temperature: -55°C; Max Operating Temperature: 155°C; Tolerance: 5%; Packaging: Tape and Reel; Package Quantity: 1; Termination: SMD/SMT; Composition: Thick Film; Number of Terminations: 2; Military Standard: Not; Max Power Dissipation: 500mW; Features: Automotive AEC-Q200; Length: 2mm; Height: 0.6mm; Width: 1.2mm; Depth: 1.25mm; Radiation Hardening: No; REACH SVHC: Unknown; Lead Free: Lead Free; ComponentLink1URL: https://datasheet.ciiva.com/11815/0900766b812cb812-11815898.pdf?src-supplier=RSComponents; ComponentLink1Description: https://datasheet.ciiva.com/11815/0900766b812cb812-11815898.pdf?src-supplier=RSComponents; ComponentLink2URL: https://datasheet.ciiva.com/17213/aoa0000ce4-17213209.pdf?src-supplier=Avnet+Europe; ComponentLink2Description: https://datasheet.ciiva.com/17213/aoa0000ce4-17213209.pdf?src-supplier=Avnet+Europe; ComponentLink3URL: https://datasheet.ciiva.com/16770/70068906-16770234.pdf?src-supplier=Allied+Electronics; ComponentLink3Description: https://datasheet.ciiva.com/16770/70068906-16770234.pdf?src-supplier=Allied+Electronics; ComponentLink4URL: https://datasheet.ciiva.com/7831/aoa0000ce4-7831005.pdf?src-supplier=Element14; ComponentLink4Description: https://datasheet.ciiva.com/7831/aoa0000ce4-7831005.pdf?src-supplier=Element14; Supplier Part Number 1: 667-ERJ-P06J472V
footprint RESC2013X70X40NL20T20 (Chip Resistor, 2-Leads, Body 2.00x1.25mm, IPC Medium Density)
pins: 1, 2

## ERJ-PB3B1622V
designator R?, comment 16.2K OHM 0.1%
RES SMD 16.2K OHM 0.1% 1/5W 0603; Manufacturer: Panasonic; Manufacturer Part Number: ERJ-PB3B1622V; Resistance: 16.2kR; Max Power Dissipation: 200mW; Temperature Coefficient: 50ppm/°C; Supplier 1: Mouser; RoHS: Yes; Category: Chip SMD Resistors; Stock 1: 20378; Pricing 1: 1=0.25000, 10=0.11100, 100=0.04900, 1000=0.03400, 5000=0.02600, 10000=0.02400, 25000=0.02300, 50000=0.02200 (USD); Case/Package: 0603; Case Code (Metric): 1608; Case Code (Imperial): 0603; Min Operating Temperature: -55°C; Max Operating Temperature: 155°C; Packaging: Tape and Reel; Composition: Thick Film; Number of Terminations: 2; Tolerance: 0.1%; Features: Automotive AEC-Q200; Length: 0.063inch; Width: 0.032inch; Height - Seated (Max): 0.022inch; ComponentLink1URL: https://industrial.panasonic.com/sa/system/files/data/download/catalog/id_fixed-resistors_e_2.pdf?src-supplier=Digi-Key; ComponentLink1Description: https://industrial.panasonic.com/sa/system/files/data/download/catalog/id_fixed-resistors_e_2.pdf?src-supplier=Digi-Key; Supplier Part Number 1: 667-ERJ-PB3B1622V
footprint RESC1608X55X30NL10T20_B (Chip Resistor, 2-Leads, Body 1.7x0.95mm, IPC Medium Density)
pins: 1, 2

## ESR18EZPJ153
designator R?, comment 15K OHM 5% 1/2W
RES SMD 15K OHM 5% 1/2W 1206; Manufacturer: Rohm; Manufacturer Part Number: ESR18EZPJ153; Resistance: 6.2kR; Max Power Dissipation: 500mW; Temperature Coefficient: 200ppm/°C; Supplier 1: Mouser; RoHS: Yes; Category: Chip SMD Resistors; Stock 1: 9337; Pricing 1: 1=0.16000, 10=0.14200, 100=0.05000, 1000=0.03400, 5000=0.02600, 10000=0.02200 (USD); Case/Package: 1206; Case Code (Imperial): 1206; Case Code (Metric): 3216; Min Operating Temperature: -55°C; Max Operating Temperature: 155°C; Composition: Thick Film; Features: Automotive AEC-Q200; Packaging: Tape and Reel; Tolerance: 5%; Number of Terminations: 2; ComponentLink1URL: https://www.rohm.com/datasheet/ESR01MZPF/esr-e?src-supplier=Digi-Key; ComponentLink1Description: https://www.rohm.com/datasheet/ESR01MZPF/esr-e?src-supplier=Digi-Key; Supplier Part Number 1: 755-ESR18EZPJ153
footprint RESC3116X65X45NL15T20 (Chip Resistor, 2-Leads, Body 3.25x1.7mm, IPC Medium Density)
pins: 1, 2

## FDD4685
designator Q?
Trans MOSFET P-CH 40V 8.4A 3-Pin(2+Tab) DPAK T/R; Manufacturer: ON Semiconductor / Fairchild; Rise Time: 15ns; Fall Time: 14ns; Turn-Off Delay Time: 34ns; Gate to Source Voltage (Vgs): 20V; Rds On Max: 27mR; Input Capacitance: 2.38nF; Max Power Dissipation: 69W; Turn-On Delay Time: 8ns; Drain to Source Breakdown Voltage: -40V; Number of Elements: 1; Element Configuration: Single; Nominal Vgs: -1.6V; Current Rating: -8.4A; Supplier 1: Mouser; Manufacturer Part Number: FDD4685; RoHS: Yes; Category: Integrated Circuits (ICs); Stock 1: 9242; Pricing 1: 1=1.02000, 10=0.87500, 100=0.67200, 500=0.59400, 1000=0.46900, 2500=0.44700 (USD); Mount: Surface Mount; Case/Package: TO-252; Number of Pins: 3; Weight: 0.26037g; Contact Plating: Tin,Matte; Min Operating Temperature: -55°C; Max Operating Temperature: 150°C; Continuous Drain Current (ID): 8.4A; Package Quantity: 2500; Packaging: Tape and Reel; Drain to Source Voltage (Vdss): 40V; Power Dissipation: 69W; Drain to Source Resistance: 27mR; Threshold Voltage: -1.6V; Voltage Rating (DC): -40V; Dual Supply Voltage: -40V; Termination: SMD/SMT; On-State Resistance: 27MR; Length: 6.73mm; Height: 2.39mm; Width: 6.22mm; Radiation Hardening: No; Lead Free: Lead Free; REACH SVHC: No SVHC; ComponentLink1URL: https://datasheet.ciiva.com/6382/fdd4685-6382336.pdf?src-supplier=Digi-Key; ComponentLink1Description: https://datasheet.ciiva.com/6382/fdd4685-6382336.pdf?src-supplier=Digi-Key; ComponentLink2URL: https://datasheet.ciiva.com/22700/298848-22700881.pdf?src-supplier=Element14; ComponentLink2Description: https://datasheet.ciiva.com/22700/298848-22700881.pdf?src-supplier=Element14; ComponentLink3URL: https://datasheet.ciiva.com/4439/fdd4685-94891-4439978.pdf?src-supplier=Mouser; ComponentLink3Description: https://datasheet.ciiva.com/4439/fdd4685-94891-4439978.pdf?src-supplier=Mouser; ComponentLink4URL: https://datasheet.ciiva.com/16742/fdd4685-16742918.pdf?src-supplier=Future+Electronics; ComponentLink4Description: https://datasheet.ciiva.com/16742/fdd4685-16742918.pdf?src-supplier=Future+Electronics; ComponentLink5URL: https://datasheet.ciiva.com/7967/298848-7967879.pdf?src-supplier=Element14; ComponentLink5Description: https://datasheet.ciiva.com/7967/298848-7967879.pdf?src-supplier=Element14; ComponentLink6URL: https://datasheet.ciiva.com/26144/fdd4685-26144727.pdf?src-supplier=Avnet+Europe; ComponentLink6Description: https://datasheet.ciiva.com/26144/fdd4685-26144727.pdf?src-supplier=Avnet+Europe; ComponentLink7URL: https://datasheet.ciiva.com/22746/1930081-22746458.pdf?src-supplier=Element14; ComponentLink7Description: https://datasheet.ciiva.com/22746/1930081-22746458.pdf?src-supplier=Element14; ComponentLink8URL: https://datasheet.ciiva.com/11175/fdd4685-11175308.pdf?src-supplier=Avnet; ComponentLink8Description: https://datasheet.ciiva.com/11175/fdd4685-11175308.pdf?src-supplier=Avnet; ComponentLink9URL: https://datasheet.ciiva.com/22655/1930081-22655292.pdf?src-supplier=Element14; ComponentLink9Description: https://datasheet.ciiva.com/22655/1930081-22655292.pdf?src-supplier=Element14; Supplier Part Number 1: 512-FDD4685
footprint FFSD10120A
pins: 1 G, 2 S, 3 D

## GCJ188R71E183KA01J
designator C?, comment 18nF 0603
MLCC - SMD/SMT 0603 0.018uF 25volts X7R 10% Soft Term; Manufacturer: Murata; Manufacturer Part Number: GCJ188R71E183KA01J; Supplier 1: Mouser; Supplier Part Number 1: 81-GCJ188R71E183KA1J; RoHS: No; Stock 1: 7640; Pricing 1: 1=0.18000, 10=0.13400, 100=0.06300, 500=0.04400, 1000=0.03600, 2500=0.03400 (USD)
footprint CAPC1608X87N
pins: 1, 2

## GRM188R61A106KE69D
designator C?, comment 0603 10uF 10volts
Cap Ceramic MLCC 0603 10uF 10volts X5R + - 10%; Manufacturer: Murata; Manufacturer Part Number: GRM188R61A106KE69D; Voltage Rating: 10V; RoHS: Yes; Category: Ceramic Capacitors; Stock 1: 1190251; Pricing 1: 1=0.21000, 10=0.14000, 100=0.04800, 1000=0.04300, 4000=0.03200, 8000=0.03000, 24000=0.02700, 100000=0.02200 (USD); Mount: Surface Mount; Case/Package: 0603; Case Code (Metric): 1608; Case Code (Imperial): 0603; Min Operating Temperature: -55°C; Max Operating Temperature: 85°C; Capacitance: 10uF; Tolerance: 10%; Packaging: Tape and Reel; Dielectric: X5R; Voltage: 10V; Voltage Rating (DC): 10V; Length: 1.6mm; Height: 0.8mm; Width: 0.031inch; Thickness: 0.037inch; Depth: 0.8mm; REACH SVHC: No SVHC; Lead Free: Lead Free; ComponentLink1URL: http://components.arrow.com/part/dataview/0323_07281717?src-supplier=Arrow+Europe; ComponentLink1Description: http://components.arrow.com/part/dataview/0323_07281717?src-supplier=Arrow+Europe; ComponentLink2URL: http://www.farnell.com/datasheets/1955682.pdf?src-supplier=Farnell; ComponentLink2Description: http://www.farnell.com/datasheets/1955682.pdf?src-supplier=Farnell; ComponentLink3URL: http://www.mouser.com/ds/2/281/c02e-2905.pdf?src-supplier=Mouser; ComponentLink3Description: http://www.mouser.com/ds/2/281/c02e-2905.pdf?src-supplier=Mouser; ComponentLink4URL: http://search.murata.co.jp/Ceramy/image/img/A01X/G101/ENG/GRM188R61A106KE69-01.pdf?src-supplier=Digi-Key; ComponentLink4Description: http://search.murata.co.jp/Ceramy/image/img/A01X/G101/ENG/GRM188R61A106KE69-01.pdf?src-supplier=Digi-Key; ComponentLink5URL: http://www.farnell.com/datasheets/1955682.pdf?src-supplier=Element14; ComponentLink5Description: http://www.farnell.com/datasheets/1955682.pdf?src-supplier=Element14; ComponentLink6URL: http://www.farnell.com/datasheets/1955682.pdf?src-supplier=Newark; ComponentLink6Description: http://www.farnell.com/datasheets/1955682.pdf?src-supplier=Newark; ComponentLink7URL: http://psearch.en.murata.com/capacitor/product/GRM188R61A106KE69%23.pdf?src-supplier=Avnet; ComponentLink7Description: http://psearch.en.murata.com/capacitor/product/GRM188R61A106KE69%23.pdf?src-supplier=Avnet; Supplier Part Number 1: 81-GRM188R61A106KE9D; Supplier 1: Mouser
footprint CAPC1608X87N
pins: 1, 2

## INA185A2IDRLR
designator IC?, comment INA185A2
Current Sense Amplifiers A 595-INA185A2IDRLT; Manufacturer: Texas Instruments; Manufacturer Part Number: INA185A2IDRLR; Supplier 1: Mouser; RoHS: No; Stock 1: 5511; Pricing 1: 1=1.68000, 10=1.43000, 100=1.14000, 500=1.00000, 1000=0.82900, 4000=0.74300, 8000=0.71500 (USD); Supplier Part Number 1: 595-INA185A2IDRLR
footprint SOTFL50P160X60-6N
pins: 1 OUT (out), 2 GND (power), 3 IN+ (in), 4 IN- (in), 5 REF (in), 6 VS (power)

## L4T12FR020FER
designator R?, comment 0.5W 0.02 OHM 1%
Current Sense Resistors - SMD 0.5W 0.02 OHM 1%; Manufacturer: Ohmite; Manufacturer Part Number: L4T12FR020FER; RoHS: No; Stock 1: 4995; Pricing 1: 1=0.170000, 10=0.166000, 25=0.146000, 50=0.133000, 100=0.115000, 250=0.100000, 500=0.083000, 1000=0.068000, 5000=0.064000 (USD); Supplier 1: Mouser; Supplier Part Number 1: 284-L4T12FR020FER
footprint RESC3116X65X45NL15T20 (Chip Resistor, 2-Leads, Body 3.25x1.7mm, IPC Medium Density)
pins: 1, 2

## L5973D
designator U?
STMICROELECTRONICS         L5973D             DC-DC Switching Buck (Step Down) Regulator, Adjustable, 4V-36Vin, 1.235V-35Vout, 2.5Aout, HSOP-8; Output Voltage: 35V; Switching Frequency: 275kHz; Output Current: 2.5A; Max Input Voltage: 36V; Number of Outputs: 1; Operating Supply Voltage: 25V; Min Input Voltage: 4V; Synchronous Rectifier: No; Efficiency: 90%; Max Output Current: 2A; Min Output Voltage: 1.235V; Reference Voltage: 3.3V; Supplier 1: Mouser; Supplier Part Number 1: 511-L5973D; Manufacturer: STMicroelectronics; Manufacturer Part Number: L5973D; RoHS: Yes; Category: Voltage Regulators - Switching; Stock 1: 5022; Pricing 1: 1=2.70000, 10=2.30000, 100=1.84000, 500=1.61000, 1000=1.33000, 2500=1.24000, 5000=1.19000, 10000=1.15000, 25000=1.11000 (USD); Mount: Surface Mount; Case/Package: SOIC; Number of Pins: 8; Weight: 0.00249oz; Min Operating Temperature: -40°C; Max Operating Temperature: 150°C; Package Quantity: 100; Packaging: Rail/Tube; Output Type: Adjustable; Max Output Voltage: 35V; Length: 5mm; Height: 1.25mm; Width: 4mm; Radiation Hardening: No; Lead Free: Lead Free; REACH SVHC: No SVHC; ComponentLink1URL: https://datasheet.ciiva.com/1640/cd00177618-1640720.pdf?src-supplier=Newark; ComponentLink1Description: https://datasheet.ciiva.com/1640/cd00177618-1640720.pdf?src-supplier=Newark; ComponentLink2URL: https://datasheet.ciiva.com/4905/cd00002851-110321-4905218.pdf?src-supplier=Mouser; ComponentLink2Description: https://datasheet.ciiva.com/4905/cd00002851-110321-4905218.pdf?src-supplier=Mouser; ComponentLink3URL: https://datasheet.ciiva.com/14094/sjstm-schaltr-l5973d-en-14094935.pdf?src-supplier=Distrelec; ComponentLink3Description: https://datasheet.ciiva.com/14094/sjstm-schaltr-l5973d-en-14094935.pdf?src-supplier=Distrelec; ComponentLink4URL: https://datasheet.ciiva.com/15112/getdatasheetpartid-112263-15112919.pdf?src-supplier=Verical; ComponentLink4Description: https://datasheet.ciiva.com/15112/getdatasheetpartid-112263-15112919.pdf?src-supplier=Verical; ComponentLink5URL: https://datasheet.ciiva.com/1511/1674529-1511141.pdf?src-supplier=Element14; ComponentLink5Description: https://datasheet.ciiva.com/1511/1674529-1511141.pdf?src-supplier=Element14; ComponentLink6URL: https://datasheet.ciiva.com/46632/cd00002851-46632652.pdf?src-supplier=Digi-Key; ComponentLink6Description: https://datasheet.ciiva.com/46632/cd00002851-46632652.pdf?src-supplier=Digi-Key
footprint HSO-8_L (SOIC, 8-Leads, Body 4.9x3.9mm, Pitch 1.27mm, Thermal Pad, IPC High Density)
pins: 1 OUT (power), 2 SYNC, 3 INH (in), 4 COMP (out), 5 FB (in), 6 VREF (power), 7 GND (power), 8 VCC (power), 9 Thermal Pad (power)